# Altium footprint library TC2050-IDC-NL.PcbLib: 2 footprints
Each footprint in its own frame and in the unit in brackets; x right, y up, seen from the top. Pads: shape width x height; smd on the part's side, far side on the other; paste and mask are expansions set on the pad; w line width, h text height; cw(c..) or ccw(c..) is an arc to the next point about the centre after c.
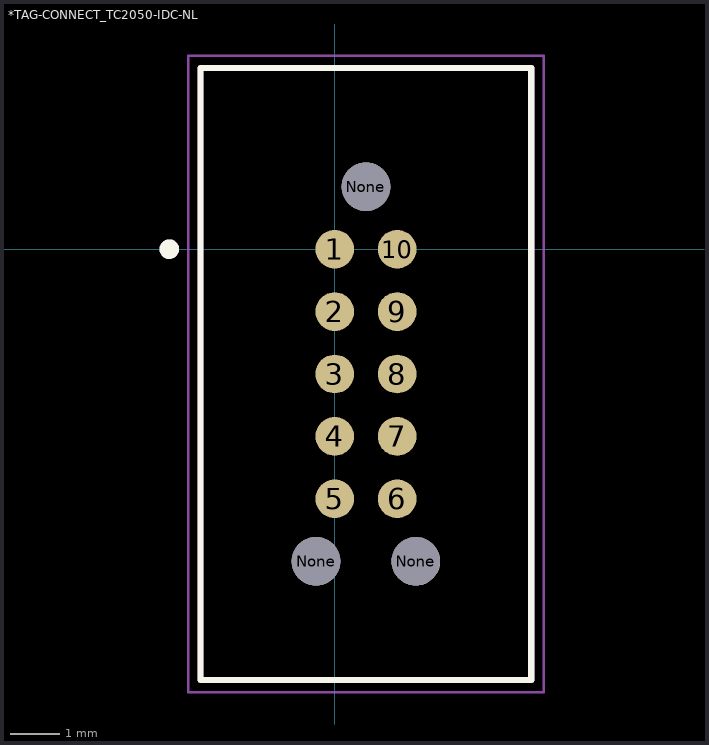
[diagram p0: the footprints below, top view; thin cyan lines are the x and y axes]

## *TAG-CONNECT_TC2050-IDC-NL [mm]
pads (13):
  round 0.787 smd: 1(0,0) 2(0,-1.27) 3(0,-2.54) 4(0,-3.81) 5(0,-5.08) 6(1.27,-5.08) 7(1.27,-3.81) 8(1.27,-2.54) 9(1.27,-1.27) 10(1.27,0)
  round 0.991 hole 0.991 unplated: None(-0.38,-6.35) None(0.635,1.27) None(1.65,-6.35)
Top Overlay:
  circle w0.2: c-3.365,0 r0.1
  lines w0.127: -2.73,-8.763 -2.73,3.683 4,3.683 4,-8.763 -2.73,-8.763
Mechanical 4:
  circle w0.2: c-3.365,0 r0.1
  circle w0.2: c-3.365,0 r0.1
  lines w0.127: -2.73,-8.763 -2.73,3.683 ; -2.73,-8.763 4,-8.763 ; -2.73,-8.763 -2.73,3.683 ; -2.73,-8.763 4,-8.763 ; -2.73,3.683 4,3.683 ; -2.73,3.683 4,3.683 ; 4,-8.763 4,3.683 ; 4,-8.763 4,3.683
Mechanical 16:
  lines w0.05: -2.98,-9.013 -2.98,3.933 4.25,3.933 4.25,-9.013 -2.98,-9.013

## PCBComponent_1 [mil]